# EAGLE library part PTA-09 (library con-phoenix-500)
RECEPTACAL
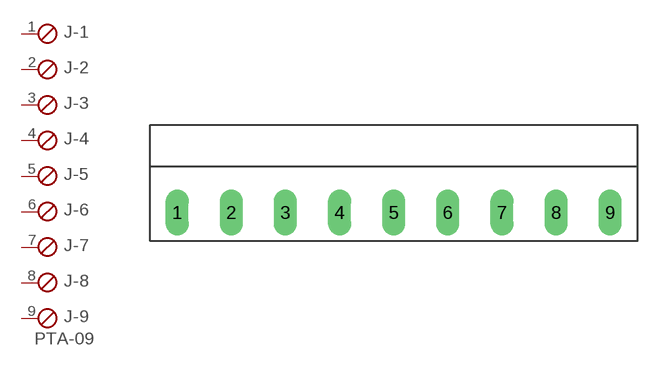
[diagram p8: symbol with the pads of PTA-09; footprint PTA-09]

Designator prefix J; gates -1=SKB -2=SKB -3=SKB -4=SKB -5=SKB -6=SKB -7=SKB -8=SKB -9=SKBV

## PTA-09  [PTA-09]
1  -1:1  pas
2  -2:1  pas
3  -3:1  pas
4  -4:1  pas
5  -5:1  pas
6  -6:1  pas
7  -7:1  pas
8  -8:1  pas
9  -9:1  pas

## Footprint PTA-09 (pad centres in mm)
RECEPTACAL
drill 1.422 long: 1 -20,0; 2 -15,0; 3 -10,0; 4 -5,0; 5 0,0; 6 5,0; 7 10,0; 8 15,0; 9 20,0